# EAGLE library part 615008140121 (library 615008185221_Eagle_WR-MJ_rev20b)
WR-MJ Modular Jack Horizontal Shielded Front Grounding Post 8P8C Tab Down KIND PROPERTIES Quality Class:500 Mating cycles General Information Operating Temperature:-40 up to +85 °C Compliance:RoHS Electrical Properties IR 1:1.5 A Working Voltage: 120 V (AC) Withstanding Voltage:1000V (AC) Contact Resistance:20mΩ RISO:500 MΩ Material Properties Insulator MateriaL:PBT Insulator Flammability Rating:UL94 V-0 Color:Black Contact Material:Copper Alloy Contact Plating: Gold Contact Type:Stamped Shielding Material Bronze Shielding Plating:Nickel Packaging Properties Packaging:Tray <https://www.we-online.com/catalog/media/o127572v209%20Family_MJ_Horizontal_Shielded_Front_Grounding_Post_8P8C_Tab_Down.jpg> Details see: https://www.we-online.com/catalog/en/MJ_HORIZONTAL_SHIELDED_FRONT_GROUNDING_POST_8P8C_TAB_DOWN/ Updated by Yingchun,Shan 2020-01-02 2020 (C) Würth Elektronik
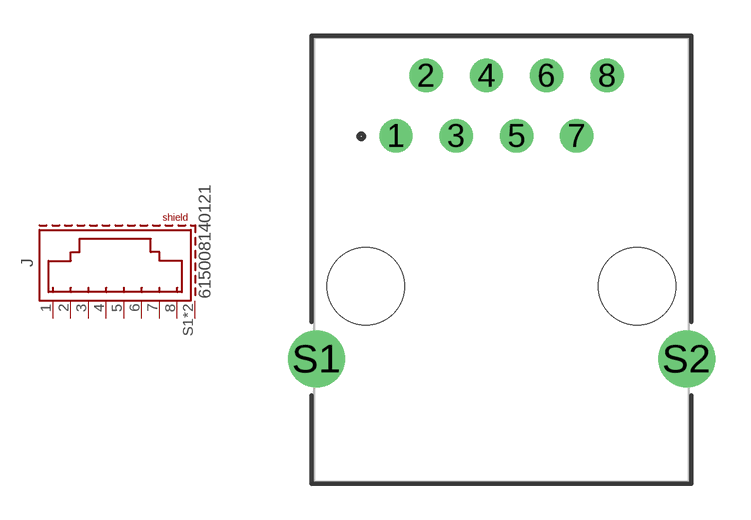
[diagram p2: symbol with the pads of 615008140121; footprint 615008140121]

Designator prefix J

## 615008140121 (DATASHEET-URL: https://www.we-online.com/catalog/datasheet/615008140121.pdf; MOUNT: THT; PART-NUMBER: 615008140121; TYPE: Horizontal; VALUE: 615008140121; XPXC: 8P8C)  [615008140121]
1  8  pas
2  7  pas
3  6  pas
4  5  pas
5  4  pas
6  3  pas
7  2  pas
8  1  pas
S1  SHIELD  pas
S2  SHIELD  pas

## Footprint 615008140121 (pad centres in mm)
WR-MJ Modular Jack Horizontal Shielded Front Grounding Post 8P8C Tab Down,8 pins
drill 0.9: 1 -4.445,5.23; 2 -3.175,7.77; 3 -1.905,5.23; 4 -0.635,7.77; 5 0.635,5.23; 6 1.905,7.77; 7 3.175,5.23; 8 4.445,7.77
drill 1.6: S1 -7.8,-4.17; S2 7.8,-4.17
hole 3.25 at -5.715,-1.12
hole 3.25 at 5.715,-1.12